# EAGLE library part HX6096NL (library MicroSemi_PoE_PSE)
Ethernet 10/100/1000 magnetics supporting 750mA POE
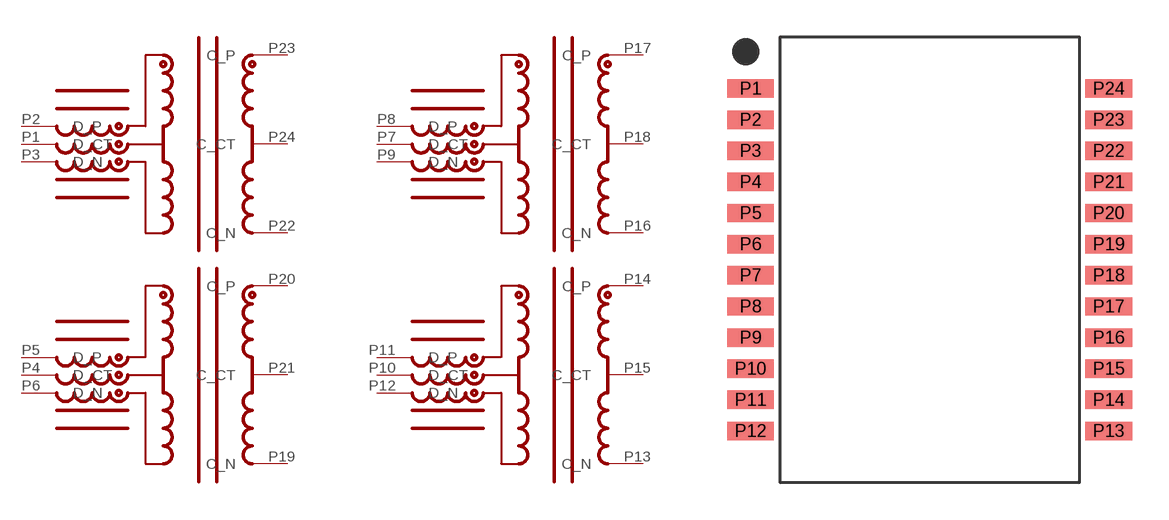
[diagram p2: symbol with the pads of SOIC-W-24; footprint SOIC-W-24]

Designator prefix T; gates A=ETH-MAG-CT B=ETH-MAG-CT C=ETH-MAG-CT D=ETH-MAG-CT

## HX6096NL  [SOIC-W-24]
P1  A:D_CT
P2  A:D_P
P3  A:D_N
P4  B:D_CT
P5  B:D_P
P6  B:D_N
P7  C:D_CT
P8  C:D_P
P9  C:D_N
P10  D:D_CT
P11  D:D_P
P12  D:D_N
P13  D:C_N
P14  D:C_P
P15  D:C_CT
P16  C:C_N
P17  C:C_P
P18  C:C_CT
P19  B:C_N
P20  B:C_P
P21  B:C_CT
P22  A:C_N
P23  A:C_P
P24  A:C_CT

## Footprint SOIC-W-24 (pad centres in mm)
smd 1.9 x 0.75: P1 -7.3,6.985; P2 -7.3,5.715; P3 -7.3,4.445; P4 -7.3,3.175; P5 -7.3,1.905; P6 -7.3,0.635; P7 -7.3,-0.635; P8 -7.3,-1.905; P9 -7.3,-3.175; P10 -7.3,-4.445; P11 -7.3,-5.715; P12 -7.3,-6.985; P13 7.3,-6.985; P14 7.3,-5.715; P15 7.3,-4.445; P16 7.3,-3.175; P17 7.3,-1.905; P18 7.3,-0.635; P19 7.3,0.635; P20 7.3,1.905; P21 7.3,3.175; P22 7.3,4.445; P23 7.3,5.715; P24 7.3,6.985